# Altium schematic symbol library Fuse.SchLib: 6 symbols
Pins are listed as number, name and electrical type; pins without a type are passive.

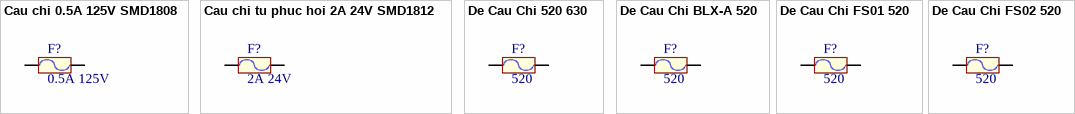
[diagram p0: symbols Cau chi 0.5A 125V SMD1808 to De Cau Chi FS02 520]

## Cau chi 0.5A 125V SMD1808
designator F?, comment 0.5A 125V
Cau chi 0.5A 125V SMD1808; Ma_Hang: MH009241; Ten: Cầu Chì 0.5A 125V SMD1808 0451.500MRL
footprint Cau Chi SMD1808
pins: 1, 2

## Cau chi tu phuc hoi 2A 24V SMD1812
designator F?, comment 2A 24V
2A 24V SMD1812; Ma_Hang: MH010033; Ten: Cầu Chì Tự Phục Hồi 2A 24V SMD1812
footprint Cau chi tu phuc hoi 2A 24V SMD1812 (Footprint not found)
pins: 1, 2

## De Cau Chi 520 630
designator F?, comment 520
5x20mm; Ma_Hang: MH001473; Ten: Đế Cầu Chì 5x20MM 6x30MM SMD01
footprint De Cau Chi 520 630 (De Fuse)
pins: 1, 2

## De Cau Chi BLX-A 520
designator F?, comment 520
5x20mm; Ma_Hang: MH003716; Ten: Đế Cầu Chì BLX-A 5x20MM
footprint De Cau Chi BLX-A 520 (PCB - Clip Cover - THR)
pins: 1, 2

## De Cau Chi FS01 520
designator F?, comment 520
5x20mm; Ma_Hang: MH003640; Ten: Đế Cầu Chì FS01-520 5x20MM
footprint De Cau Chi FS01 520 (FUSEHOLDER BLOCKS - PCB - CLIP COVER - THT - WR-FSH)
pins: 1, 2

## De Cau Chi FS02 520
designator F?, comment 520
5x20mm; Ma_Hang: MH003641; Ten: Đế Cầu Chì FS02-520 5x20MM
footprint De Cau Chi FS02 520 (FUSEHOLDER BLOCKS - PCB - CLIP COVER - THT - WR-FSH)
pins: 1, 2